# Altium schematic symbol library DW01A.SchLib: 1 symbol
Pins are listed as number, name and electrical type; pins without a type are passive.

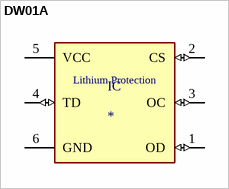
[diagram p0: symbol DW01A]

## DW01A
designator IC
Pushbutton Switch SPST-NC Standard Panel Mount, Front; MF: Fortune Semiconductor; MP: DW01A; Price: None; Availability: Unavailable; Package: Package Analog Devices; SnapEDA_Link: https://www.snapeda.com/parts/DW01A/Fortune%20Semiconductor/view-part/4388554/?ref=snap; Value: *
footprint SOT23-6
pins: 1 OD (io), 2 CS (io), 3 OC (io), 4 TD (io), 5 VCC (power), 6 GND (power)
text: Lithium Protection